# Altium footprint library diod_triod.PcbLib: 51 footprints (part 4 of 4)
Each footprint in its own frame and in the unit in brackets; x right, y up, seen from the top. Pads: shape width x height; smd on the part's side, far side on the other; paste and mask are expansions set on the pad; w line width, h text height; cw(c..) or ccw(c..) is an arc to the next point about the centre after c.
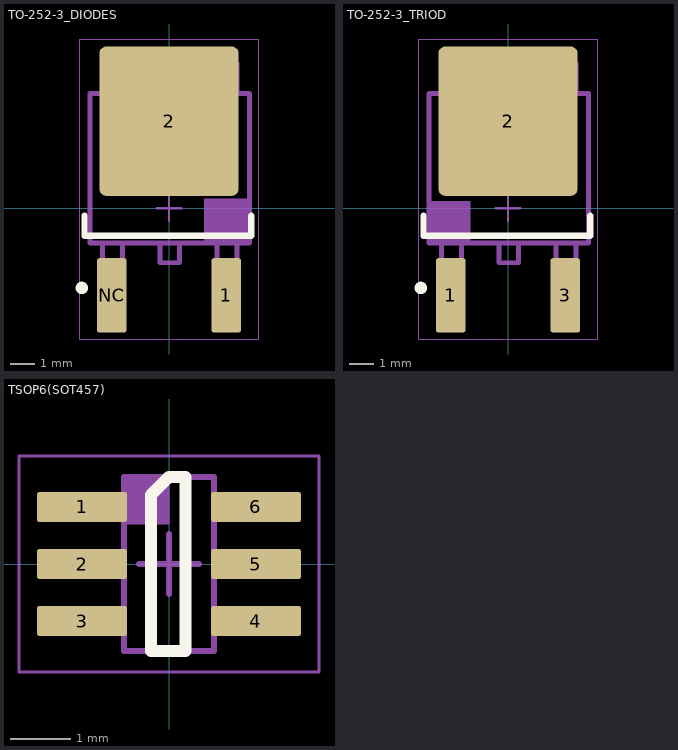
[diagram p3: the footprints below, top view; thin cyan lines are the x and y axes]

## TO-252-3_DIODES [mm]
pads (3):
  rrect20% 1.2x3 smd: 1(2.3,-3.5) NC(-2.3,-3.5)
  rrect10% 5.6x6 smd paste-25.4: 2(0,3.5)
Top Overlay:
  circle w0.25: c-3.5,-3.2 r0.125
  lines w0.25: -3.4,-0.3 -3.4,-1.1 3.3,-1.1 3.3,-0.3
Top Paste:
  region: -2.25,4.525 -0.25,4.525 -0.25,5.775 -2.25,5.775
  region: -2.25,2.775 -0.25,2.775 -0.25,4.025 -2.25,4.025
  region: 2.25,5.775 0.25,5.775 0.25,4.525 2.25,4.525
  region: 0.25,2.775 2.25,2.775 2.25,4.025 0.25,4.025
  region: -2.25,1.025 -0.25,1.025 -0.25,2.275 -2.25,2.275
  region: 0.25,1.025 2.25,1.025 2.25,2.275 0.25,2.275
Top Designator:
  text ".Designator" at -2.899,7.1 h0.6
Top Assembly:
  rectangle: 1.4,-1.389 3.229,0.4
  lines w0.2: -2.671,-1.389 -2.671,-3.989 -1.871,-3.989 -1.871,-1.389 ; -2.671,4.611 -2.671,5.811 -1.671,5.811 -1.671,5.411 1.729,5.411 1.729,5.811 2.729,5.811 2.729,4.611 ; -0.371,-1.389 -0.371,-2.189 0.429,-2.189 0.429,-1.389 ; 1.929,-1.389 1.929,-3.989 2.729,-3.989 2.729,-1.389 ; -3.171,-1.389 -3.171,1.611 -3.171,4.611 3.229,4.611 3.229,1.611 3.229,-1.389 -3.171,-1.389
Top Courtyard:
  lines w0.05: -3.593,-5.252 -3.593,6.8 3.6,6.8 3.6,-5.252 -3.593,-5.252
  lines w0.1: -0.5,0 0.5,0 ; 0,-0.5 0,0.5
3D body "User Library-DPAK_TO-252AA.STEP": height 2.37, standoff -0.03, extent -3.367,-4.023 3.367,6.077

## TO-252-3_TRIOD [mm]
pads (3):
  rrect20% 1.2x3 smd: 1(-2.3,-3.5) 3(2.3,-3.5)
  rrect10% 5.6x6 smd paste-25.4: 2(0,3.5)
Top Overlay:
  circle w0.25: c-3.5,-3.2 r0.125
  lines w0.25: -3.4,-0.3 -3.4,-1.1 3.3,-1.1 3.3,-0.3
Top Paste:
  region: 0.25,1.025 2.25,1.025 2.25,2.275 0.25,2.275
  region: -2.25,1.025 -0.25,1.025 -0.25,2.275 -2.25,2.275
  region: 0.25,2.775 2.25,2.775 2.25,4.025 0.25,4.025
  region: 2.25,5.775 0.25,5.775 0.25,4.525 2.25,4.525
  region: -2.25,2.775 -0.25,2.775 -0.25,4.025 -2.25,4.025
  region: -2.25,4.525 -0.25,4.525 -0.25,5.775 -2.25,5.775
Top Designator:
  text ".Designator" at -2.899,7.1 h0.6
Top Assembly:
  rectangle: -3.171,-1.389 -1.5,0.3
  lines w0.2: -2.671,-1.389 -2.671,-3.989 -1.871,-3.989 -1.871,-1.389 ; -2.671,4.611 -2.671,5.811 -1.671,5.811 -1.671,5.411 1.729,5.411 1.729,5.811 2.729,5.811 2.729,4.611 ; -0.371,-1.389 -0.371,-2.189 0.429,-2.189 0.429,-1.389 ; 1.929,-1.389 1.929,-3.989 2.729,-3.989 2.729,-1.389 ; -3.171,-1.389 3.229,-1.389 3.229,1.611 3.229,4.611 -3.171,4.611 -3.171,1.611 -3.171,-1.389
Top Courtyard:
  lines w0.05: -3.593,-5.252 3.6,-5.252 3.6,6.8 -3.593,6.8 -3.593,-5.252
  lines w0.1: -0.5,0 0.5,0 ; 0,-0.5 0,0.5
3D body "User Library-DPAK_TO-252AA.STEP": height 2.37, standoff -0.03, extent -3.367,-4.023 3.367,6.077

## TSOP6(SOT457) [mm]
pads (6):
  rrect15% 1.5x0.5 smd: 1(-1.45,0.95) 2(-1.45,0) 3(-1.45,-0.95) 4(1.45,-0.95) 5(1.45,0) 6(1.45,0.95)
Top Overlay:
  lines w0.2: -0.3,-1.45 -0.3,1.153 -0.003,1.45 0.131,1.45 0.275,1.45 0.275,-1.45 -0.3,-1.45
Top Designator:
  text ".Designator" at -2.899,2.3 h0.6
Top Assembly:
  rectangle: -0.75,0.662 0.009,1.45
  lines w0.1: -0.75,-1.45 0.75,-1.45 0.75,1.45 -0.75,1.45 -0.75,-1.45
Top Courtyard:
  lines w0.05: -2.5,-1.8 -2.5,1.8 2.5,1.8 2.5,-1.8 -2.5,-1.8
  lines w0.1: -0.5,0 0.5,0 ; 0,-0.5 0,0.5
3D body "BC807DS-QX.stp": height 1.01, standoff 0, extent -1.377,-1.476 1.373,1.474